# EAGLE library part MPL115A2 (library zephod-components)
Miniature SPI Digital Barometer
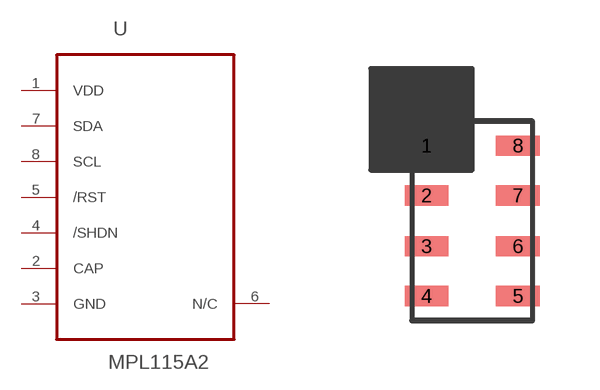
[diagram p14: symbol with the pads of LGA8R125P0X4_500X300X120; footprint LGA8R125P0X4_500X300X120]

Designator prefix U

## MPL115A2 (MPN: MPL115A2; OC_FARNELL: 2102577; OC_NEWARK: 69R5779; PACKAGESTYLE: LGA-8; SUPPLIER: Freescale)  [LGA8R125P0X4_500X300X120]
1  VDD  pwr
2  CAP  in
3  GND  pas
4  /SHDN  in
5  /RST  in
6  N/C  in
7  SDA  out
8  SCL  in

## Footprint LGA8R125P0X4_500X300X120 (pad centres in mm)
smd 1.092 x 0.508: 1 -1.143,1.88; 2 -1.143,0.635; 3 -1.143,-0.635; 4 -1.143,-1.88; 5 1.143,-1.88; 6 1.143,-0.635; 7 1.143,0.635; 8 1.143,1.88